# EAGLE library part DRV8835DSSR (library DRV8835_ultra_librarian)
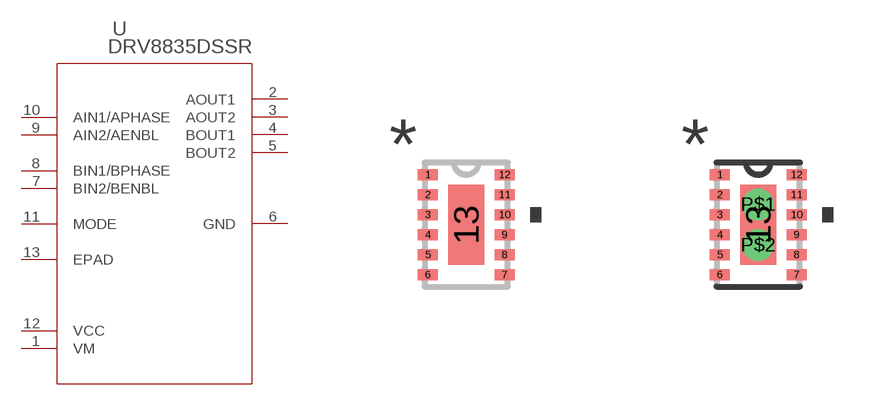
[diagram p0: symbol with the pads of DSS12_P9X2; footprints DSS12_P9X2, DSS12_P9X2_THERMAL]

Designator prefix U

## DRV8835DSSR (MANUFACTURER_PART_NUMBER: DRV8835DSSR; VENDOR: Texas Instruments)  [DSS12_P9X2]
1  VM  pwr
2  AOUT1  out
3  AOUT2  out
4  BOUT1  out
5  BOUT2  out
6  GND  pwr
7  BIN2/BENBL  in
8  BIN1/BPHASE  in
9  AIN2/AENBL  in
10  AIN1/APHASE  in
11  MODE  in
12  VCC  pwr
13  EPAD  pas

## DRV8835DSSRDSS12_P9X2_THERMAL  [DSS12_P9X2_THERMAL]
1  VM  pwr
2  AOUT1  out
3  AOUT2  out
4  BOUT1  out
5  BOUT2  out
6  GND  pwr
7  BIN2/BENBL  in
8  BIN1/BPHASE  in
9  AIN2/AENBL  in
10  AIN1/APHASE  in
11  MODE  in
12  VCC  pwr
13  EPAD  pas
P$1  EPAD  pas
P$2  EPAD  pas

## DRV8835DSSRDSS12_P9X2_THERMAL_EXTENDED  [DSS12_P9X2_THERMAL_EXTENDED]
Pads as for DSS12_P9X2_THERMAL

## Footprint DSS12_P9X2 (pad centres in mm)
smd 0.5 x 0.28: 1 -0.959,1.25; 2 -0.959,0.75; 3 -0.959,0.25; 4 -0.959,-0.25; 5 -0.959,-0.75; 6 -0.959,-1.25; 7 0.959,-1.25; 8 0.959,-0.75; 9 0.959,-0.25; 10 0.959,0.25; 11 0.959,0.75; 12 0.959,1.25
smd 0.9 x 2: 13 0,0

## Footprint DSS12_P9X2_THERMAL (pad centres in mm)
smd 0.5 x 0.28: 1 -0.959,1.25; 2 -0.959,0.75; 3 -0.959,0.25; 4 -0.959,-0.25; 5 -0.959,-0.75; 6 -0.959,-1.25; 7 0.959,-1.25; 8 0.959,-0.75; 9 0.959,-0.25; 10 0.959,0.25; 11 0.959,0.75; 12 0.959,1.25
smd 0.9 x 2: 13 0,0
drill 0.279 pad 0.406: P$1 0,0.508; P$2 0,-0.508

## Footprint DSS12_P9X2_THERMAL_EXTENDED (pad centres in mm)
smd 0.61 x 0.28: 1 -1.013,1.25; 2 -1.013,0.75; 3 -1.013,0.25; 4 -1.013,-0.25; 5 -1.013,-0.75; 6 -1.013,-1.25; 7 1.013,-1.25; 8 1.013,-0.75; 9 1.013,-0.25; 10 1.013,0.25; 11 1.013,0.75; 12 1.013,1.25
smd 0.9 x 2: 13 0,0
drill 0.33 pad 0.406: P$1 0,0.508; P$2 0,-0.508